# EAGLE library part BSC072N08NS5 (library BSC072N08NS5)
Infineon DIFFERENTIATED MOSFETS Source: Datasheet <https://www.infineon.com/dgdl/Infineon-BSC072N08NS5-DS-v02_00-EN.pdf?fileId=5546d4624ad04ef9014ae3d8e8192c7c>
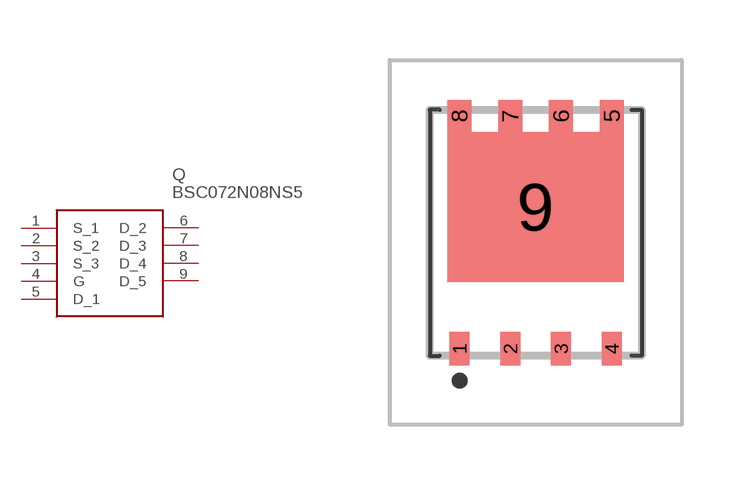
[diagram p0: symbol with the pads of BSC080N03LSG; footprint BSC080N03LSG]

Designator prefix Q

## BSC072N08NS5 (Description: Infineon DIFFERENTIATED MOSFETS; Height: mm; Manufacturer_Name: Infineon; Manufacturer_Part_Number: BSC072N08NS5; Mouser_Part_Number: N/A; Mouser_Price-Stock: https://www.mouser.co.uk/ProductDetail/Infineon-Technologies/BSC072N08NS5?qs=eERmAtE5kX0PueJFVqKhsA%3D%3D)  [BSC080N03LSG]
1  S_1
2  S_2
3  S_3
4  G
5  D_1
6  D_2
7  D_3
8  D_4
9  D_5

## Footprint BSC080N03LSG (pad centres in mm)
PG-TDSON-8_2
smd 0.5 x 0.85: 1 -1.905,-2.662; 2 -0.635,-2.662; 3 0.635,-2.662; 4 1.905,-2.662
smd 0.6 x 0.8: 5 1.905,3.163; 6 0.635,3.163; 7 -0.635,3.163; 8 -1.905,3.163
smd 4.41 x 3.75: 9 0,0.888